# Altium footprint library PCB - D2PAK - INFINEON PG-TO263-7-3.PcbLib: 1 footprints
Each footprint in its own frame and in the unit in brackets; x right, y up, seen from the top. Pads: shape width x height; smd on the part's side, far side on the other; paste and mask are expansions set on the pad; w line width, h text height; cw(c..) or ccw(c..) is an arc to the next point about the centre after c.
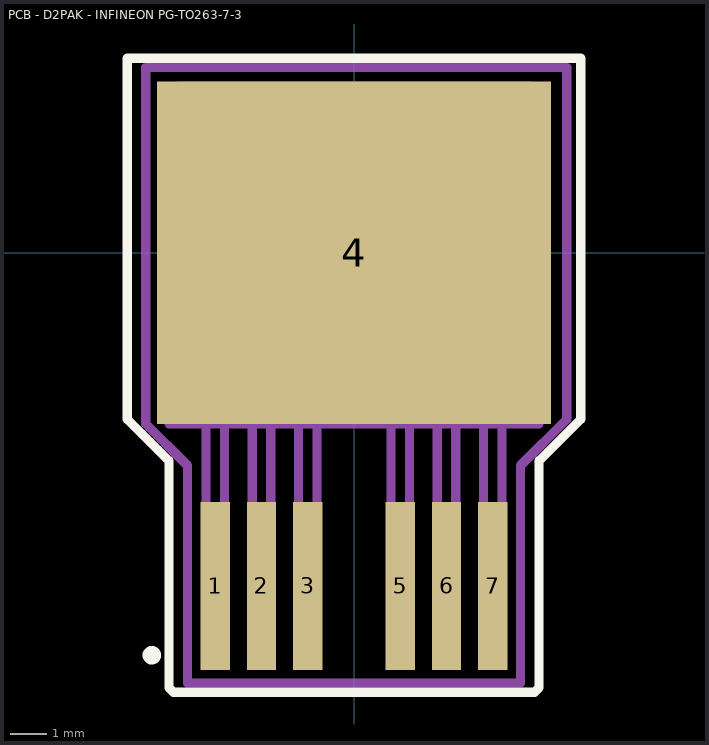
[diagram p0: the footprint, top view; thin cyan lines are the x and y axes]

## PCB - D2PAK - INFINEON PG-TO263-7-3 [mm]
pads (7):
  rect 0.8x4.6 smd: 1(-3.81,-9.15) 2(-2.54,-9.15) 3(-1.27,-9.15) 5(1.27,-9.15) 6(2.54,-9.15) 7(3.81,-9.15)
  rect 10.8x9.4 smd: 4(0,0)
Top Overlay:
  circle w0.254: c-5.55,-11.05 r0.127
  lines w0.254: -6.223,-4.572 -6.223,5.334 6.223,5.334 6.223,-4.572 5.08,-5.715 5.08,-11.938 4.953,-12.065 4.445,-12.065 -4.953,-12.065 -5.08,-11.938 -5.08,-5.715 -6.223,-4.572
Mechanical 1:
  lines w0.254: 1.016,-4.699 1.016,-9.525 1.524,-9.525 1.524,-4.699 ; -5.08,-4.699 5.08,-4.699 5.08,3.683 -5.08,3.683 -5.08,-4.699 ; -4.826,3.683 4.826,3.683 4.826,4.572 -4.826,4.572 -4.826,3.683 ; -4.064,-9.525 -3.556,-9.525 -3.556,-4.699 -4.064,-4.699 -4.064,-9.525 ; -2.794,-9.525 -2.794,-4.699 -2.286,-4.699 -2.286,-9.525 -2.794,-9.525 ; -1.524,-9.525 -1.016,-9.525 -1.016,-4.699 -1.143,-4.699 -1.524,-4.699 -1.524,-9.525 ; 2.286,-9.525 2.286,-4.699 2.794,-4.699 2.794,-9.525 2.286,-9.525 ; 3.556,-9.525 3.556,-4.699 4.064,-4.699 4.064,-9.525 3.556,-9.525
Mechanical 15:
  lines w0.254: -5.715,-4.699 -4.572,-5.842 -4.572,-11.811 4.572,-11.811 4.572,-5.842 5.842,-4.572 5.842,-2.667 5.842,5.08 -5.715,5.08 -5.715,-4.699
3D body: height 4.4, standoff 0, extent -5.079,-4.698 5.079,3.682
3D body: height 1.27, standoff 0, extent -4.825,3.684 4.825,4.571
3D body: height 2.4, standoff 0, extent 1.017,-9.524 1.523,-4.7
3D body: height 2.4, standoff 0, extent 2.287,-9.524 2.793,-4.7
3D body: height 2.4, standoff 0, extent 3.557,-9.524 4.063,-4.7
3D body: height 2.4, standoff 0, extent -1.523,-9.524 -1.017,-4.7
3D body: height 2.4, standoff 0, extent -4.063,-9.524 -3.557,-4.7
3D body: height 2.4, standoff 0, extent -2.793,-9.524 -2.287,-4.7